# EAGLE library part DG408DJZ (library PocketCube)
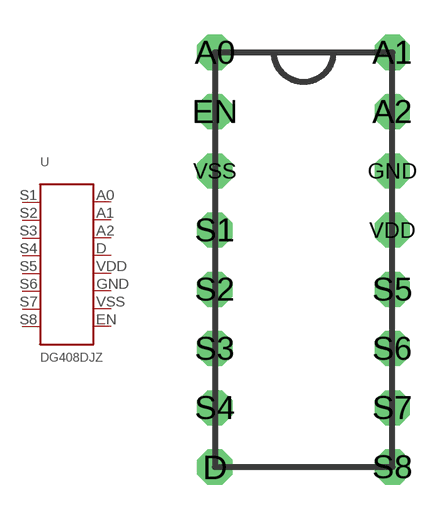
[diagram p12: symbol with the pads of DG408DJZ; footprint DG408DJZ]

Designator prefix -

## DG408DJZ  [DG408DJZ]
A0  A0
A1  A1
A2  A2
D  D
EN  EN
GND  GND
S1  S1
S2  S2
S3  S3
S4  S4
S5  S5
S6  S6
S7  S7
S8  S8
VDD  VDD
VSS  VSS

## Footprint DG408DJZ (pad centres in mm)
drill 1 octagon: A0 -3.81,10.16; A1 3.81,10.16; A2 3.81,7.62; D -3.81,-7.62; EN -3.81,7.62; GND 3.81,5.08; S1 -3.81,2.54; S2 -3.81,0; S3 -3.81,-2.54; S4 -3.81,-5.08; S5 3.81,0; S6 3.81,-2.54; S7 3.81,-5.08; S8 3.81,-7.62; VDD 3.81,2.54; VSS -3.81,5.08